# Altium footprint library RS-032G05A3-SMRT.PcbLib: 1 footprints
Each footprint in its own frame and in the unit in brackets; x right, y up, seen from the top. Pads: shape width x height; smd on the part's side, far side on the other; paste and mask are expansions set on the pad; w line width, h text height; cw(c..) or ccw(c..) is an arc to the next point about the centre after c.
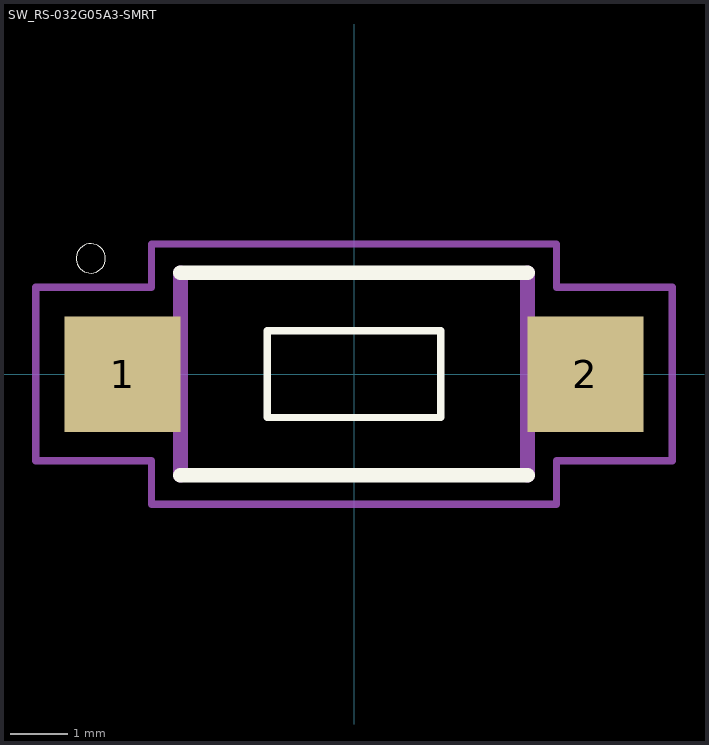
[diagram p0: the footprint, top view; thin cyan lines are the x and y axes]

## SW_RS-032G05A3-SMRT [mm]
pads (2):
  rect 2x2 smd: 1(-4,0) 2(4,0)
Top Overlay:
  circle w0: c-4.55,2 r0.254
  lines w0.127: -1.5,-0.75 1.5,-0.75 1.5,0.75 -1.5,0.75 -1.5,-0.75
  lines w0.254: -3,-1.75 3,-1.75 ; -3,1.75 3,1.75
Mechanical 13:
  lines w0.254: -3,-1.75 -3,1.75 ; 3,-1.75 3,1.75
Mechanical 15:
  lines w0.127: -5.5,-1.5 -3.5,-1.5 -3.5,-2.25 3.5,-2.25 3.5,-1.5 5.5,-1.5 5.5,1.5 3.5,1.5 3.5,2.25 -3.5,2.25 -3.5,1.5 -5.5,1.5 -5.5,-1.5